# Altium schematic symbol library 5.1V Zener Diode.SchLib: 1 symbol
Pins are listed as number, name and electrical type; pins without a type are passive.

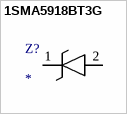
[diagram p0: symbol 1SMA5918BT3G]

## 1SMA5918BT3G
designator Z?
Zener Diode; Manufacturer_Name: ON Semiconductor; Manufacturer_Part_Number: 1SMA5918BT3G; Datasheet Link: https://componentsearchengine.com/Datasheets/1/1SMA5918BT3G.pdf; Height: 2.2mm; Mouser Part Number: 863-1SMA5918BT3G; Mouser Price/Stock: https://www.mouser.com/Search/Refine.aspx?Keyword=863-1SMA5918BT3G
footprint DIOM5026X220N
pins: 1 K, 2 A